# Altium schematic symbol library 2021-03-01_09-01-59.SchLib: 2 symbols
Pins are listed as number, name and electrical type; pins without a type are passive.

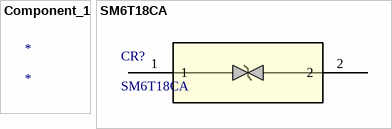
[diagram p0: symbols Component_1 to SM6T18CA]

## Component_1
designator *

## SM6T18CA
designator CR?
No Description Available; Vendor: STMicroelectronics; Built_By: EMA_UL_Team; SourceLibrary: Update_to_database_2020-12-07; Type: DEV; Manufacturer_Part_Number: SM6T18CA; Copyright: Copyright (C) 2018 Accelerated Designs. All rights reserved; RefDes: RefDes
footprint SMB_STM
pins: 1, 2